# Altium integrated library Analog Devices Operational Amplifiers.IntLib: 2102 symbols (part 41 of 70)
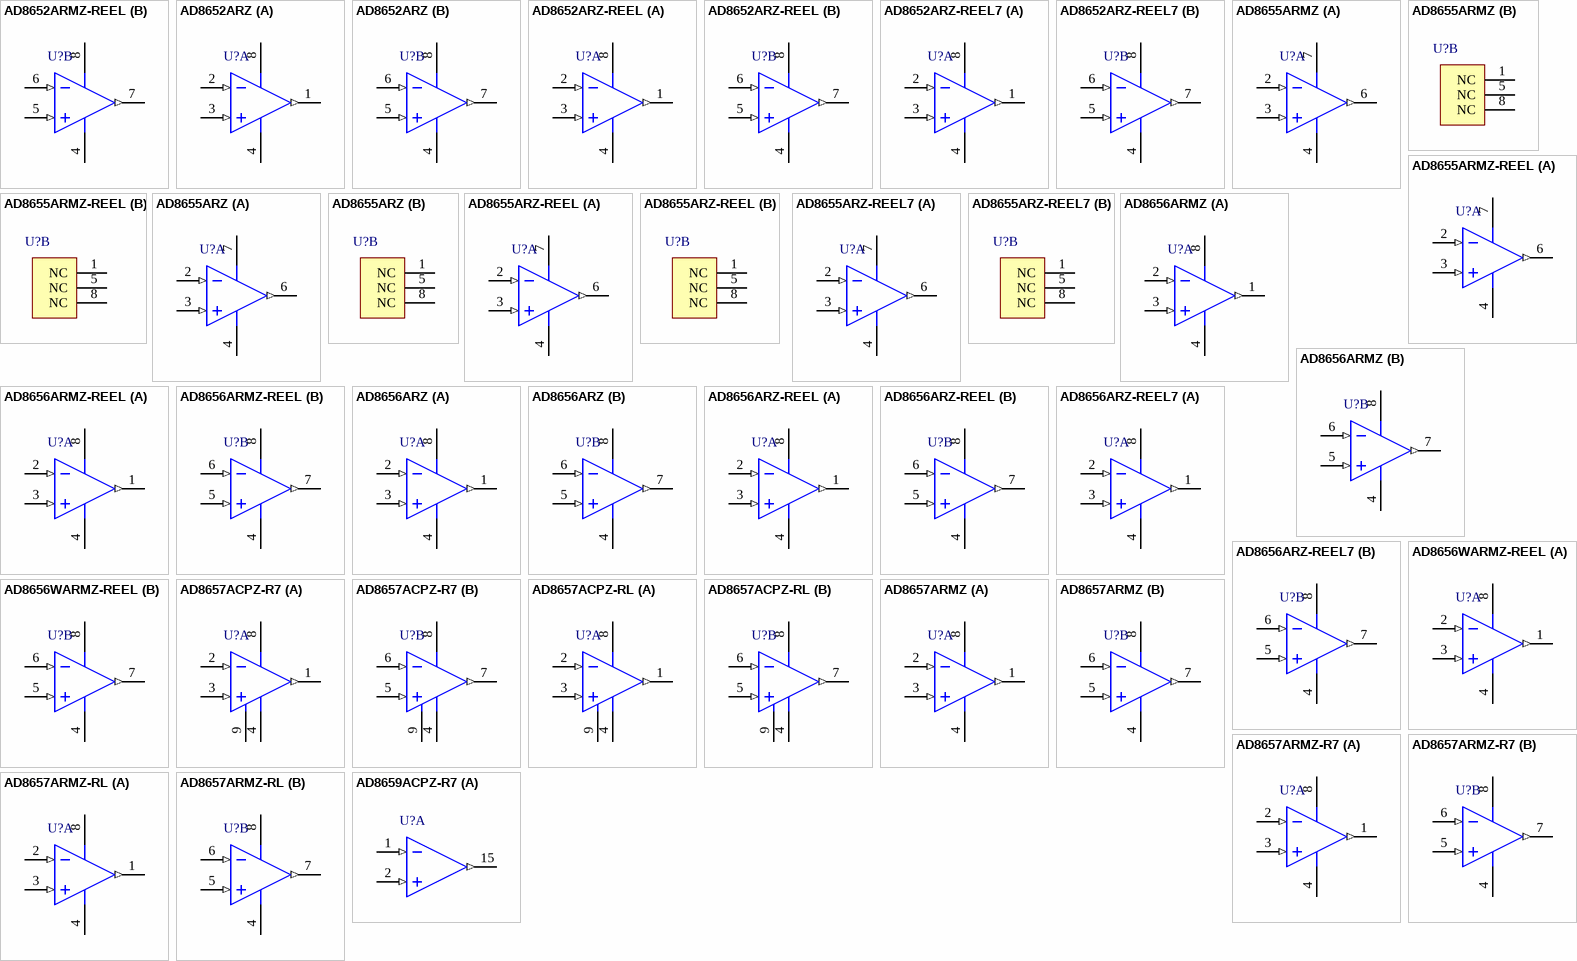
[diagram p154: symbols AD8652ARMZ-REEL to AD8659ACPZ-R7]

## AD8657ACPZ-R7
designator U?
Double Channel Single-Supply Operation Operational Amplifier, 200 KHz BW, 50 mV/us SR, Industrial, 8-pin SON (CP-8-11), Reel; Generic Part Number: AD8657; Manufacturer: Analog Devices; PartNumber: AD8657ACPZ-R7; Amplifiers Per Package: 2; Input Bias Current: 1pA; Input Offset Voltage: 350uV; Iq/Amp: 18uA; Small Signal Bandwidth: 200KHz; V Span Max: 18V; V Span Min: 2.7V; DatasheetVersion: Rev. B; PackageVersion: 01-24-2011-B; PackageReference: CP-8-11; PackageDescription: 8-Pin Lead Frame Chip Scale Package, Body 3 x 3 mm, Pitch 0.5 mm; Supplier 1: Digi-Key; Supplier Part Number 1: AD8657ACPZ-R7TR-ND; Supplier 2: Digi-Key; Supplier Part Number 2: AD8657ACPZ-R7CT-ND; Supplier 3: Digi-Key; Supplier Part Number 3: AD8657ACPZ-R7DKR-ND; Packing: Reel; Slew Rate: 50mV/us; Mounting Technology: Surface Mount; Code_JEDEC: MO-229-WEED; ComponentLink1Description: Manufacturer URL; ComponentLink1URL: http://www.analog.com/en/index.html; ComponentLink2Description: Datasheet; ComponentLink2URL: http://www.analog.com/static/imported-files/data_sheets/AD8657_8659.pdf; ComponentLink3Description: Package Specification; ComponentLink3URL: http://www.analog.com/static/imported-files/packages/PKG_PDF/LFCSP(CP)/CP_8_11.pdf; ComponentLink4Description: Reference Circuit; ComponentLink4URL: http://www.analog.com/en/all-operational-amplifiers-op-amps/operational-amplifiers-op-amps/ad8657/products/product.html#product-recommendations
footprint ADI-CP-8-11_N (SON, 8-Leads, Body 3x3mm, Pitch 0.5mm, Thermal Pad 2.34 x 1.60mm, IPC Medium Density)
footprint ADI-CP-8-11_L (SON, 8-Leads, Body 3x3mm, Pitch 0.5mm, Thermal Pad 2.34 x 1.60mm, IPC High Density)
footprint ADI-CP-8-11_M (SON, 8-Leads, Body 3x3mm, Pitch 0.5mm, Thermal Pad 2.34 x 1.60mm, IPC Low Density)
pins on every part: 4 -V (power) "Negative Supply Voltage.", 8 +V (power) "Positive Supply Voltage.", 9 EP "Exposed Pad (LFCSP Only). Connect the exposed pad to V? or leave it unconnected."
part A pins: 1 OUT A (out) "Output, Channel A.", 2 -IN A (in) "Inverting Input, Channel A.", 3 +IN A (in) "Noninverting Input, Channel A."
part B pins: 5 +IN B (in) "Noninverting Input, Channel B.", 6 -IN B (in) "Inverting Input, Channel B.", 7 OUT B (out) "Output, Channel B."

## AD8657ACPZ-RL
designator U?
Double Channel Single-Supply Operation Operational Amplifier, 200 KHz BW, 50 mV/us SR, Industrial, 8-pin SON (CP-8-11), Reel; Generic Part Number: AD8657; Manufacturer: Analog Devices; PartNumber: AD8657ACPZ-RL; Amplifiers Per Package: 2; Input Bias Current: 1pA; Input Offset Voltage: 350uV; Iq/Amp: 18uA; Small Signal Bandwidth: 200KHz; V Span Max: 18V; V Span Min: 2.7V; DatasheetVersion: Rev. B; PackageVersion: 01-24-2011-B; PackageReference: CP-8-11; PackageDescription: 8-Pin Lead Frame Chip Scale Package, Body 3 x 3 mm, Pitch 0.5 mm; Supplier 1: Digi-Key; Supplier Part Number 1: AD8657ACPZ-RL-ND; Packing: Reel; Slew Rate: 50mV/us; Mounting Technology: Surface Mount; Code_JEDEC: MO-229-WEED; ComponentLink1Description: Manufacturer URL; ComponentLink1URL: http://www.analog.com/en/index.html; ComponentLink2Description: Datasheet; ComponentLink2URL: http://www.analog.com/static/imported-files/data_sheets/AD8657_8659.pdf; ComponentLink3Description: Package Specification; ComponentLink3URL: http://www.analog.com/static/imported-files/packages/PKG_PDF/LFCSP(CP)/CP_8_11.pdf; ComponentLink4Description: Reference Circuit; ComponentLink4URL: http://www.analog.com/en/all-operational-amplifiers-op-amps/operational-amplifiers-op-amps/ad8657/products/product.html#product-recommendations
footprint ADI-CP-8-11_N (SON, 8-Leads, Body 3x3mm, Pitch 0.5mm, Thermal Pad 2.34 x 1.60mm, IPC Medium Density)
footprint ADI-CP-8-11_L (SON, 8-Leads, Body 3x3mm, Pitch 0.5mm, Thermal Pad 2.34 x 1.60mm, IPC High Density)
footprint ADI-CP-8-11_M (SON, 8-Leads, Body 3x3mm, Pitch 0.5mm, Thermal Pad 2.34 x 1.60mm, IPC Low Density)
pins on every part: 4 -V (power) "Negative Supply Voltage.", 8 +V (power) "Positive Supply Voltage.", 9 EP "Exposed Pad (LFCSP Only). Connect the exposed pad to V? or leave it unconnected."
part A pins: 1 OUT A (out) "Output, Channel A.", 2 -IN A (in) "Inverting Input, Channel A.", 3 +IN A (in) "Noninverting Input, Channel A."
part B pins: 5 +IN B (in) "Noninverting Input, Channel B.", 6 -IN B (in) "Inverting Input, Channel B.", 7 OUT B (out) "Output, Channel B."

## AD8657ARMZ
designator U?
Double Channel Single-Supply Operation Operational Amplifier, 200 KHz BW, 50 mV/us SR, Industrial, 8-pin SOP (RM-8), Tube; Generic Part Number: AD8657; Manufacturer: Analog Devices; PartNumber: AD8657ARMZ; Amplifiers Per Package: 2; Input Bias Current: 1pA; Input Offset Voltage: 350uV; Iq/Amp: 18uA; Small Signal Bandwidth: 200KHz; V Span Max: 18V; V Span Min: 2.7V; DatasheetVersion: Rev. B; PackageReference: RM-8; PackageDescription: 8-Pin Mini Small Outline Package, Body 3 x 3 mm, Pitch 0.65 mm; Supplier 1: Digi-Key; Supplier Part Number 1: AD8657ARMZ-ND; Supplier 2: Farnell; Supplier Part Number 2: 1897110; Supplier 3: Newark; Supplier Part Number 3: 31T9330; Packing: Tube; Slew Rate: 50mV/us; Mounting Technology: Surface Mount; Code_JEDEC: MO-187-AA; ComponentLink1Description: Manufacturer URL; ComponentLink1URL: http://www.analog.com/en/index.html; ComponentLink2Description: Datasheet; ComponentLink2URL: http://www.analog.com/static/imported-files/data_sheets/AD8657_8659.pdf; ComponentLink3Description: Package Specification; ComponentLink3URL: http://www.analog.com/static/imported-files/packages/PKG_PDF/MSOP%28RM%29/RM_8.pdf; ComponentLink4Description: Reference Circuit; ComponentLink4URL: http://www.analog.com/en/all-operational-amplifiers-op-amps/operational-amplifiers-op-amps/ad8657/products/product.html#product-recommendations
footprint ADI-RM-8_N (SOP, 8-Leads, Body 3x3mm, Pitch 0.65mm, IPC Medium Density)
footprint ADI-RM-8_L (SOP, 8-Leads, Body 3x3mm, Pitch 0.65mm, IPC High Density)
footprint ADI-RM-8_M (SOP, 8-Leads, Body 3x3mm, Pitch 0.65mm, IPC Low Density)
pins on every part: 4 -V (power), 8 +V (power)
part A pins: 1 OUT A (out), 2 -IN A (in), 3 +IN A (in)
part B pins: 5 +IN B (in), 6 -IN B (in), 7 OUT B (out)

## AD8657ARMZ-R7
designator U?
Double Channel Single-Supply Operation Operational Amplifier, 200 KHz BW, 50 mV/us SR, Industrial, 8-pin SOP (RM-8), Reel; Generic Part Number: AD8657; Manufacturer: Analog Devices; PartNumber: AD8657ARMZ-R7; Amplifiers Per Package: 2; Input Bias Current: 1pA; Input Offset Voltage: 350uV; Iq/Amp: 18uA; Small Signal Bandwidth: 200KHz; V Span Max: 18V; V Span Min: 2.7V; DatasheetVersion: Rev. B; PackageReference: RM-8; PackageDescription: 8-Pin Mini Small Outline Package, Body 3 x 3 mm, Pitch 0.65 mm; Supplier 1: Digi-Key; Supplier Part Number 1: AD8657ARMZ-R7TR-ND; Supplier 2: Digi-Key; Supplier Part Number 2: AD8657ARMZ-R7CT-ND; Supplier 3: Digi-Key; Supplier Part Number 3: AD8657ARMZ-R7DKR-ND; Packing: Reel; Slew Rate: 50mV/us; Mounting Technology: Surface Mount; Code_JEDEC: MO-187-AA; ComponentLink1Description: Manufacturer URL; ComponentLink1URL: http://www.analog.com/en/index.html; ComponentLink2Description: Datasheet; ComponentLink2URL: http://www.analog.com/static/imported-files/data_sheets/AD8657_8659.pdf; ComponentLink3Description: Package Specification; ComponentLink3URL: http://www.analog.com/static/imported-files/packages/PKG_PDF/MSOP%28RM%29/RM_8.pdf; ComponentLink4Description: Reference Circuit; ComponentLink4URL: http://www.analog.com/en/all-operational-amplifiers-op-amps/operational-amplifiers-op-amps/ad8657/products/product.html#product-recommendations
footprint ADI-RM-8_N (SOP, 8-Leads, Body 3x3mm, Pitch 0.65mm, IPC Medium Density)
footprint ADI-RM-8_L (SOP, 8-Leads, Body 3x3mm, Pitch 0.65mm, IPC High Density)
footprint ADI-RM-8_M (SOP, 8-Leads, Body 3x3mm, Pitch 0.65mm, IPC Low Density)
pins on every part: 4 -V (power), 8 +V (power)
part A pins: 1 OUT A (out), 2 -IN A (in), 3 +IN A (in)
part B pins: 5 +IN B (in), 6 -IN B (in), 7 OUT B (out)

## AD8657ARMZ-RL
designator U?
Double Channel Single-Supply Operation Operational Amplifier, 200 KHz BW, 50 mV/us SR, Industrial, 8-pin SOP (RM-8), Reel; Generic Part Number: AD8657; Manufacturer: Analog Devices; PartNumber: AD8657ARMZ-RL; Amplifiers Per Package: 2; Input Bias Current: 1pA; Input Offset Voltage: 350uV; Iq/Amp: 18uA; Small Signal Bandwidth: 200KHz; V Span Max: 18V; V Span Min: 2.7V; DatasheetVersion: Rev. B; PackageReference: RM-8; PackageDescription: 8-Pin Mini Small Outline Package, Body 3 x 3 mm, Pitch 0.65 mm; Supplier 1: Digi-Key; Supplier Part Number 1: AD8657ARMZ-RL-ND; Packing: Reel; Slew Rate: 50mV/us; Mounting Technology: Surface Mount; Code_JEDEC: MO-187-AA; ComponentLink1Description: Manufacturer URL; ComponentLink1URL: http://www.analog.com/en/index.html; ComponentLink2Description: Datasheet; ComponentLink2URL: http://www.analog.com/static/imported-files/data_sheets/AD8657_8659.pdf; ComponentLink3Description: Package Specification; ComponentLink3URL: http://www.analog.com/static/imported-files/packages/PKG_PDF/MSOP%28RM%29/RM_8.pdf; ComponentLink4Description: Reference Circuit; ComponentLink4URL: http://www.analog.com/en/all-operational-amplifiers-op-amps/operational-amplifiers-op-amps/ad8657/products/product.html#product-recommendations
footprint ADI-RM-8_N (SOP, 8-Leads, Body 3x3mm, Pitch 0.65mm, IPC Medium Density)
footprint ADI-RM-8_L (SOP, 8-Leads, Body 3x3mm, Pitch 0.65mm, IPC High Density)
footprint ADI-RM-8_M (SOP, 8-Leads, Body 3x3mm, Pitch 0.65mm, IPC Low Density)
pins on every part: 4 -V (power), 8 +V (power)
part A pins: 1 OUT A (out), 2 -IN A (in), 3 +IN A (in)
part B pins: 5 +IN B (in), 6 -IN B (in), 7 OUT B (out)

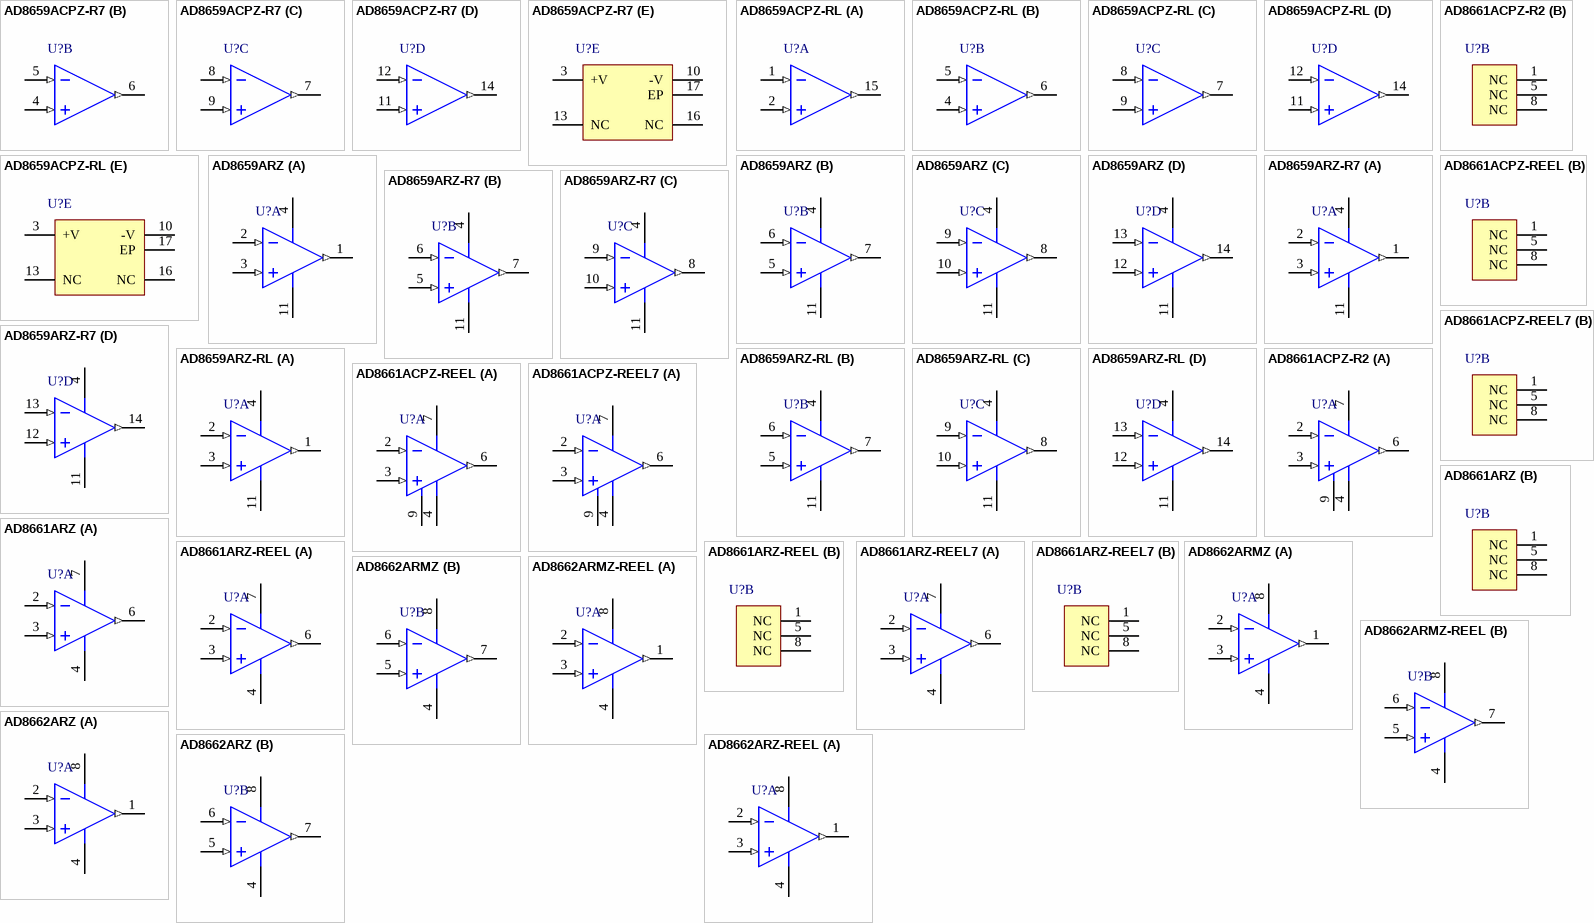
[diagram p63: symbols AD8659ACPZ-R7 to AD8662ARZ-REEL]

## AD8659ACPZ-R7
designator U?
Quad Channel Single-Supply Operation Operational Amplifier, 230 KHz BW, 75 mV/us SR, Industrial, 16-pin QFN (CP-16-20), Reel; Generic Part Number: AD8659; Manufacturer: Analog Devices; PartNumber: AD8659ACPZ-R7; Amplifiers Per Package: 4; Input Bias Current: 2pA; Input Offset Voltage: 350uV; Iq/Amp: 18uA; Small Signal Bandwidth: 230KHz; V Span Max: 18V; V Span Min: 2.7V; DatasheetVersion: Rev. B; PackageVersion: 101408-A; PackageReference: CP-16-20; PackageDescription: 16-Pin Lead Frame Chip Scale Package, Body 4 x 4 mm, Pitch 0.65 mm; Supplier 1: Digi-Key; Supplier Part Number 1: AD8659ACPZ-R7TR-ND; Supplier 2: Digi-Key; Supplier Part Number 2: AD8659ACPZ-R7CT-ND; Supplier 3: Digi-Key; Supplier Part Number 3: AD8659ACPZ-R7DKR-ND; Packing: Reel; Slew Rate: 75mV/us; Mounting Technology: Surface Mount; Code_JEDEC: MO-220-WGGD; ComponentLink1Description: Manufacturer URL; ComponentLink1URL: http://www.analog.com/en/index.html; ComponentLink2Description: Datasheet; ComponentLink2URL: http://www.analog.com/static/imported-files/data_sheets/AD8657_8659.pdf; ComponentLink3Description: Package Specification; ComponentLink3URL: http://www.analog.com/static/imported-files/packages/PKG_PDF/LFCSP(CP)/CP_16_20.pdf
footprint ADI-CP-16-20_N (QFN, 16-Leads, Body 4x4mm, Pitch 0.65mm, Thermal Pad 2.35x2.35mm, IPC Medium Density)
footprint ADI-CP-16-20_L (QFN, 16-Leads, Body 4x4mm, Pitch 0.65mm, Thermal Pad 2.35x2.35mm, IPC High Density)
footprint ADI-CP-16-20_M (QFN, 16-Leads, Body 4x4mm, Pitch 0.65mm, Thermal Pad 2.35x2.35mm, IPC Low Density)
part A pins: 1 -IN A (in) "Negative Input Channel A.", 2 +IN A (in) "Positive Input Channel A.", 15 OUT A (out) "Output Channel C."
part B pins: 4 +IN B (in) "Positive Input Channel B.", 5 -IN B (in) "Negative Input Channel B.", 6 OUT B (out) "Output Channel B."
part C pins: 7 OUT C (out) "Output Channel C.", 8 -IN C (in) "Negative Input Channel C.", 9 +IN C (in) "Positive Input Channel C."
part D pins: 11 +IN D (in) "Positive Input Channel D.", 12 -IN D (in) "Negative Input Channel D.", 14 OUT D (out) "Output Channel D."
part E pins: 3 +V (power) "Positive Supply Voltage.", 10 -V (power) "Negative Supply Voltage.", 13 NC "No Internal Connection", 16 NC "No Internal Connection", 17 EP "Exposed Pad. For the AD8659 (16-lead LFCSP only), connect the exposed pad to V- or leave it unconnected"

## AD8659ACPZ-RL
designator U?
Quad Channel Single-Supply Operation Operational Amplifier, 230 KHz BW, 75 mV/us SR, Industrial, 16-pin QFN (CP-16-20), Reel; Generic Part Number: AD8659; Manufacturer: Analog Devices; PartNumber: AD8659ACPZ-RL; Amplifiers Per Package: 4; Input Bias Current: 2pA; Input Offset Voltage: 350uV; Iq/Amp: 18uA; Small Signal Bandwidth: 230KHz; V Span Max: 18V; V Span Min: 2.7V; DatasheetVersion: Rev. B; PackageVersion: 101408-A; PackageReference: CP-16-20; PackageDescription: 16-Pin Lead Frame Chip Scale Package, Body 4 x 4 mm, Pitch 0.65 mm; Supplier 1: Digi-Key; Supplier Part Number 1: AD8659ACPZ-RL-ND; Packing: Reel; Slew Rate: 75mV/us; Mounting Technology: Surface Mount; Code_JEDEC: MO-220-WGGD; ComponentLink1Description: Manufacturer URL; ComponentLink1URL: http://www.analog.com/en/index.html; ComponentLink2Description: Datasheet; ComponentLink2URL: http://www.analog.com/static/imported-files/data_sheets/AD8657_8659.pdf; ComponentLink3Description: Package Specification; ComponentLink3URL: http://www.analog.com/static/imported-files/packages/PKG_PDF/LFCSP(CP)/CP_16_20.pdf
footprint ADI-CP-16-20_N (QFN, 16-Leads, Body 4x4mm, Pitch 0.65mm, Thermal Pad 2.35x2.35mm, IPC Medium Density)
footprint ADI-CP-16-20_L (QFN, 16-Leads, Body 4x4mm, Pitch 0.65mm, Thermal Pad 2.35x2.35mm, IPC High Density)
footprint ADI-CP-16-20_M (QFN, 16-Leads, Body 4x4mm, Pitch 0.65mm, Thermal Pad 2.35x2.35mm, IPC Low Density)
part A pins: 1 -IN A (in) "Negative Input Channel A.", 2 +IN A (in) "Positive Input Channel A.", 15 OUT A (out) "Output Channel C."
part B pins: 4 +IN B (in) "Positive Input Channel B.", 5 -IN B (in) "Negative Input Channel B.", 6 OUT B (out) "Output Channel B."
part C pins: 7 OUT C (out) "Output Channel C.", 8 -IN C (in) "Negative Input Channel C.", 9 +IN C (in) "Positive Input Channel C."
part D pins: 11 +IN D (in) "Positive Input Channel D.", 12 -IN D (in) "Negative Input Channel D.", 14 OUT D (out) "Output Channel D."
part E pins: 3 +V (power) "Positive Supply Voltage.", 10 -V (power) "Negative Supply Voltage.", 13 NC "No Internal Connection", 16 NC "No Internal Connection", 17 EP "Exposed Pad. For the AD8659 (16-lead LFCSP only), connect the exposed pad to V- or leave it unconnected"

## AD8659ARZ
designator U?
Quad Channel Single-Supply Operation Operational Amplifier, 230 KHz BW, 75 mV/us SR, Industrial, 14-pin SOIC (R-14), Tube; Generic Part Number: AD8659; Manufacturer: Analog Devices; PartNumber: AD8659ARZ; Amplifiers Per Package: 4; Input Bias Current: 2pA; Input Offset Voltage: 350uV; Iq/Amp: 18uA; Small Signal Bandwidth: 230KHz; V Span Max: 18V; V Span Min: 2.7V; DatasheetVersion: Rev. B; PackageVersion: 060606-A; PackageReference: R-14; PackageDescription: 14-Pin Standard Small Outline Package, Body 8.65 x 3.9 mm, Pitch 1.27 mm; Supplier 1: Digi-Key; Supplier Part Number 1: AD8659ARZ-ND; Supplier 2: Farnell; Supplier Part Number 2: 2191717; Supplier 3: Newark; Supplier Part Number 3: 45T0244; Supplier 4: Newark; Supplier Part Number 4: 43W5567; Packing: Tube; Slew Rate: 75mV/us; Mounting Technology: Surface Mount; Code_JEDEC: MS-012-AB; ComponentLink1Description: Manufacturer URL; ComponentLink1URL: http://www.analog.com/en/index.html; ComponentLink2Description: Datasheet; ComponentLink2URL: http://www.analog.com/static/imported-files/data_sheets/AD8657_8659.pdf; ComponentLink3Description: Package Specification; ComponentLink3URL: http://www.analog.com/static/imported-files/packages/PKG_PDF/SOIC_Narrow%20(R)/R_14.pdf
footprint ADI-R-14_N (SOIC, 14-Leads, Body 8.65x3.9mm, Pitch 1.27mm, IPC Medium Density)
footprint ADI-R-14_L (SOIC, 14-Leads, Body 8.65x3.9mm, Pitch 1.27mm, IPC High Density)
footprint ADI-R-14_M (SOIC, 14-Leads, Body 8.65x3.9mm, Pitch 1.27mm, IPC Low Density)
pins on every part: 4 +V (power), 11 -V (power)
part A pins: 1 OUT A (out), 2 -IN A (in), 3 +IN A (in)
part B pins: 5 +IN B (in), 6 -IN B (in), 7 OUT B (out)
part C pins: 8 OUT C (out), 9 -IN C (in), 10 +IN C (in)
part D pins: 12 +IN D (in), 13 -IN D (in), 14 OUT D (out)

## AD8659ARZ-R7
designator U?
Quad Channel Single-Supply Operation Operational Amplifier, 230 KHz BW, 80 mV/us SR, Industrial, 14-pin SOIC (R-14), Reel; Generic Part Number: AD8659; Manufacturer: Analog Devices; PartNumber: AD8659ARZ-R7; Amplifiers Per Package: 4; Input Bias Current: 2pA; Input Offset Voltage: 350uV; Iq/Amp: 18uA; Slew Rate: 75mV/us; Small Signal Bandwidth: 230KHz; V Span Max: 18V; V Span Min: 2.7V; DatasheetVersion: Rev. B; PackageVersion: 060606-A; PackageReference: R-14; PackageDescription: 14-Pin Standard Small Outline Package, Body 8.65 x 3.9 mm, Pitch 1.27 mm; Supplier 1: Digi-Key; Supplier Part Number 1: AD8659ARZ-R7TR-ND; Supplier 2: Digi-Key; Supplier Part Number 2: AD8659ARZ-R7CT-ND; Supplier 3: Digi-Key; Supplier Part Number 3: AD8659ARZ-R7DKR-ND; Packing: Reel; Mounting Technology: Surface Mount; Code_JEDEC: MS-012-AB; ComponentLink1Description: Manufacturer URL; ComponentLink1URL: http://www.analog.com/en/index.html; ComponentLink2Description: Datasheet; ComponentLink2URL: http://www.analog.com/static/imported-files/data_sheets/AD8657_8659.pdf; ComponentLink3Description: Package Specification; ComponentLink3URL: http://www.analog.com/static/imported-files/packages/PKG_PDF/SOIC_Narrow%20(R)/R_14.pdf
footprint ADI-R-14_N (SOIC, 14-Leads, Body 8.65x3.9mm, Pitch 1.27mm, IPC Medium Density)
footprint ADI-R-14_L (SOIC, 14-Leads, Body 8.65x3.9mm, Pitch 1.27mm, IPC High Density)
footprint ADI-R-14_M (SOIC, 14-Leads, Body 8.65x3.9mm, Pitch 1.27mm, IPC Low Density)
pins on every part: 4 +V (power), 11 -V (power)
part A pins: 1 OUT A (out), 2 -IN A (in), 3 +IN A (in)
part B pins: 5 +IN B (in), 6 -IN B (in), 7 OUT B (out)
part C pins: 8 OUT C (out), 9 -IN C (in), 10 +IN C (in)
part D pins: 12 +IN D (in), 13 -IN D (in), 14 OUT D (out)

## AD8659ARZ-RL
designator U?
Quad Channel Single-Supply Operation Operational Amplifier, 230 KHz BW, 75 mV/us SR, Industrial, 14-pin SOIC (R-14), Reel; Generic Part Number: AD8659; Manufacturer: Analog Devices; PartNumber: AD8659ARZ-RL; Amplifiers Per Package: 4; Input Bias Current: 2pA; Input Offset Voltage: 350uV; Iq/Amp: 18uA; Small Signal Bandwidth: 230KHz; V Span Max: 18V; V Span Min: 2.7V; DatasheetVersion: Rev. B; PackageVersion: 060606-A; PackageReference: R-14; PackageDescription: 14-Pin Standard Small Outline Package, Body 8.65 x 3.9 mm, Pitch 1.27 mm; Supplier 1: Digi-Key; Supplier Part Number 1: AD8659ARZ-RL-ND; Packing: Reel; Slew Rate: 75mV/us; Mounting Technology: Surface Mount; Code_JEDEC: MS-012-AB; ComponentLink1Description: Manufacturer URL; ComponentLink1URL: http://www.analog.com/en/index.html; ComponentLink2Description: Datasheet; ComponentLink2URL: http://www.analog.com/static/imported-files/data_sheets/AD8657_8659.pdf; ComponentLink3Description: Package Specification; ComponentLink3URL: http://www.analog.com/static/imported-files/packages/PKG_PDF/SOIC_Narrow%20(R)/R_14.pdf
footprint ADI-R-14_N (SOIC, 14-Leads, Body 8.65x3.9mm, Pitch 1.27mm, IPC Medium Density)
footprint ADI-R-14_L (SOIC, 14-Leads, Body 8.65x3.9mm, Pitch 1.27mm, IPC High Density)
footprint ADI-R-14_M (SOIC, 14-Leads, Body 8.65x3.9mm, Pitch 1.27mm, IPC Low Density)
pins on every part: 4 +V (power), 11 -V (power)
part A pins: 1 OUT A (out), 2 -IN A (in), 3 +IN A (in)
part B pins: 5 +IN B (in), 6 -IN B (in), 7 OUT B (out)
part C pins: 8 OUT C (out), 9 -IN C (in), 10 +IN C (in)
part D pins: 12 +IN D (in), 13 -IN D (in), 14 OUT D (out)

## AD8661ACPZ-R2
designator U?
Single Channel Wide Bandwidth Operational Amplifier, 4 MHz BW, 3.5 V/us SR, Industrial, 8-pin QFN (CP-8-2), Reel; Generic Part Number: AD8661; Manufacturer: Analog Devices; PartNumber: AD8661ACPZ-R2; Amplifiers Per Package: 1; Input Bias Current: 300fA; Input Offset Voltage: 30uV; Iq/Amp: 1.4mA; Small Signal Bandwidth: 4MHz; V Span Max: 16V; V Span Min: 5V; DatasheetVersion: Rev. D; PackageVersion: 061507-B; PackageReference: CP-8-2; PackageDescription: 8-Pin Lead Frame Chip Scale Package, Body 3 x 3 mm, Pitch 0.5 mm; Supplier 1: Digi-Key; Supplier Part Number 1: AD8661ACPZ-R2TR-ND; Supplier 2: Digi-Key; Supplier Part Number 2: AD8661ACPZ-R2CT-ND; Supplier 3: Digi-Key; Supplier Part Number 3: AD8661ACPZ-R2DKR-ND; Slew Rate: 3.5V/us; Mounting Technology: Surface Mount; ComponentLink1Description: Manufacturer URL; ComponentLink1URL: http://www.analog.com/en/index.html; ComponentLink2Description: Datasheet; ComponentLink2URL: http://www.analog.com/static/imported-files/data_sheets/AD8661_8662.pdf; ComponentLink3Description: Package Specification; ComponentLink3URL: http://www.analog.com/static/imported-files/packages/56953322593982CP_8_2.pdf
footprint ADI-CP-8-2_N (QFN, 8-Leads, Body 3x3mm, Pitch 0.5mm, Thermal Pad 1.45X1.74mm, IPC Medium Density)
footprint ADI-CP-8-2_L (QFN, 8-Leads, Body 3x3mm, Pitch 0.5mm, Thermal Pad 1.45X1.74mm, IPC High Density)
footprint ADI-CP-8-2_M (QFN, 8-Leads, Body 3x3mm, Pitch 0.5mm, Thermal Pad 1.45X1.74mm, IPC Low Density)
part A pins: 2 -IN (in), 3 +IN (in), 4 -V (power), 6 OUT (out), 7 +V (power), 9 EP
part B pins: 1 NC, 5 NC, 8 NC

## AD8661ACPZ-REEL
designator U?
Single Channel Wide Bandwidth Operational Amplifier, 4 MHz BW, 3.5 V/us SR, Industrial, 8-pin QFN (CP-8-2), Reel; Generic Part Number: AD8661; Manufacturer: Analog Devices; PartNumber: AD8661ACPZ-REEL; Amplifiers Per Package: 1; Input Bias Current: 300fA; Input Offset Voltage: 30uV; Iq/Amp: 1.4mA; Small Signal Bandwidth: 4MHz; V Span Max: 16V; V Span Min: 5V; DatasheetVersion: Rev. D; PackageVersion: 061507-B; PackageReference: CP-8-2; PackageDescription: 8-Pin Lead Frame Chip Scale Package, Body 3 x 3 mm, Pitch 0.5 mm; Supplier 1: Digi-Key; Supplier Part Number 1: AD8661ACPZ-REEL-ND; Slew Rate: 3.5V/us; Mounting Technology: Surface Mount; ComponentLink1Description: Manufacturer URL; ComponentLink1URL: http://www.analog.com/en/index.html; ComponentLink2Description: Datasheet; ComponentLink2URL: http://www.analog.com/static/imported-files/data_sheets/AD8661_8662.pdf; ComponentLink3Description: Package Specification; ComponentLink3URL: http://www.analog.com/static/imported-files/packages/56953322593982CP_8_2.pdf
footprint ADI-CP-8-2_N (QFN, 8-Leads, Body 3x3mm, Pitch 0.5mm, Thermal Pad 1.45X1.74mm, IPC Medium Density)
footprint ADI-CP-8-2_L (QFN, 8-Leads, Body 3x3mm, Pitch 0.5mm, Thermal Pad 1.45X1.74mm, IPC High Density)
footprint ADI-CP-8-2_M (QFN, 8-Leads, Body 3x3mm, Pitch 0.5mm, Thermal Pad 1.45X1.74mm, IPC Low Density)
part A pins: 2 -IN (in), 3 +IN (in), 4 -V (power), 6 OUT (out), 7 +V (power), 9 EP
part B pins: 1 NC, 5 NC, 8 NC

## AD8661ACPZ-REEL7
designator U?
Single Channel Wide Bandwidth Operational Amplifier, 4 MHz BW, 3.5 V/us SR, Industrial, 8-pin QFN (CP-8-2), Reel; Generic Part Number: AD8661; Manufacturer: Analog Devices; PartNumber: AD8661ACPZ-REEL7; Amplifiers Per Package: 1; Input Bias Current: 300fA; Input Offset Voltage: 30uV; Iq/Amp: 1.4mA; Small Signal Bandwidth: 4MHz; V Span Max: 16V; V Span Min: 5V; DatasheetVersion: Rev. D; PackageVersion: 061507-B; PackageReference: CP-8-2; PackageDescription: 8-Pin Lead Frame Chip Scale Package, Body 3 x 3 mm, Pitch 0.5 mm; Supplier 1: Digi-Key; Supplier Part Number 1: AD8661ACPZ-REEL7TR-ND; Supplier 2: Digi-Key; Supplier Part Number 2: AD8661ACPZ-REEL7CT-ND; Supplier 3: Digi-Key; Supplier Part Number 3: AD8661ACPZ-REEL7DKR-ND; Slew Rate: 3.5V/us; Mounting Technology: Surface Mount; ComponentLink1Description: Manufacturer URL; ComponentLink1URL: http://www.analog.com/en/index.html; ComponentLink2Description: Datasheet; ComponentLink2URL: http://www.analog.com/static/imported-files/data_sheets/AD8661_8662.pdf; ComponentLink3Description: Package Specification; ComponentLink3URL: http://www.analog.com/static/imported-files/packages/56953322593982CP_8_2.pdf
footprint ADI-CP-8-2_N (QFN, 8-Leads, Body 3x3mm, Pitch 0.5mm, Thermal Pad 1.45X1.74mm, IPC Medium Density)
footprint ADI-CP-8-2_L (QFN, 8-Leads, Body 3x3mm, Pitch 0.5mm, Thermal Pad 1.45X1.74mm, IPC High Density)
footprint ADI-CP-8-2_M (QFN, 8-Leads, Body 3x3mm, Pitch 0.5mm, Thermal Pad 1.45X1.74mm, IPC Low Density)
part A pins: 2 -IN (in), 3 +IN (in), 4 -V (power), 6 OUT (out), 7 +V (power), 9 EP
part B pins: 1 NC, 5 NC, 8 NC

## AD8661ARZ
designator U?
Single Channel Wide Bandwidth Operational Amplifier, 4 MHz BW, 3.5 V/us SR, Industrial, 8-pin SOIC (R-8), Tube; Generic Part Number: AD8661; Manufacturer: Analog Devices; PartNumber: AD8661ARZ; Amplifiers Per Package: 1; Input Bias Current: 300fA; Input Offset Voltage: 30uV; Iq/Amp: 1.4mA; Small Signal Bandwidth: 4MHz; V Span Max: 16V; V Span Min: 5V; DatasheetVersion: Rev. D; PackageVersion: 060506-A; PackageReference: R-8; PackageDescription: 8-Pin Standard Small Outline Package, Body 3.9 x 4.9 mm, Pitch 1.27 mm; Supplier 1: Digi-Key; Supplier Part Number 1: AD8661ARZ-ND; Supplier 2: Farnell; Supplier Part Number 2: 1117886; Supplier 3: Newark; Supplier Part Number 3: 31M4596; Supplier 4: Newark; Supplier Part Number 4: 12M9145; Slew Rate: 3.5V/us; Mounting Technology: Surface Mount; Code_JEDEC: MS-012-AA; ComponentLink1Description: Manufacturer URL; ComponentLink1URL: http://www.analog.com/en/index.html; ComponentLink2Description: Datasheet; ComponentLink2URL: http://www.analog.com/static/imported-files/data_sheets/AD8661_8662.pdf; ComponentLink3Description: Package Specification; ComponentLink3URL: http://www.analog.com/static/imported-files/packages/PKG_PDF/SOIC_Narrow%20(R)/R_8.pdf
footprint ADI-R-8_N (SOIC, 8-Leads, Body 4.9x3.9mm, Pitch 1.27mm, IPC Medium Density)
footprint ADI-R-8_L (SOIC, 8-Leads, Body 4.9x3.9mm, Pitch 1.27mm, IPC High Density)
footprint ADI-R-8_M (SOIC, 8-Leads, Body 4.9x3.9mm, Pitch 1.27mm, IPC Low Density)
part A pins: 2 -IN (in), 3 +IN (in), 4 -V (power), 6 OUT (out), 7 +V (power)
part B pins: 1 NC, 5 NC, 8 NC

## AD8661ARZ-REEL
designator U?
Single Channel Wide Bandwidth Operational Amplifier, 4 MHz BW, 3.5 V/us SR, Industrial, 8-pin SOIC (R-8), Reel; Generic Part Number: AD8661; Manufacturer: Analog Devices; PartNumber: AD8661ARZ-REEL; Amplifiers Per Package: 1; Input Bias Current: 300fA; Input Offset Voltage: 30uV; Iq/Amp: 1.4mA; Small Signal Bandwidth: 4MHz; V Span Max: 16V; V Span Min: 5V; DatasheetVersion: Rev. D; PackageVersion: 060506-A; PackageReference: R-8; PackageDescription: 8-Pin Standard Small Outline Package, Body 3.9 x 4.9 mm, Pitch 1.27 mm; Supplier 1: Digi-Key; Supplier Part Number 1: AD8661ARZ-REEL-ND; Slew Rate: 3.5V/us; Mounting Technology: Surface Mount; Code_JEDEC: MS-012-AA; ComponentLink1Description: Manufacturer URL; ComponentLink1URL: http://www.analog.com/en/index.html; ComponentLink2Description: Datasheet; ComponentLink2URL: http://www.analog.com/static/imported-files/data_sheets/AD8661_8662.pdf; ComponentLink3Description: Package Specification; ComponentLink3URL: http://www.analog.com/static/imported-files/packages/PKG_PDF/SOIC_Narrow%20(R)/R_8.pdf
footprint ADI-R-8_N (SOIC, 8-Leads, Body 4.9x3.9mm, Pitch 1.27mm, IPC Medium Density)
footprint ADI-R-8_L (SOIC, 8-Leads, Body 4.9x3.9mm, Pitch 1.27mm, IPC High Density)
footprint ADI-R-8_M (SOIC, 8-Leads, Body 4.9x3.9mm, Pitch 1.27mm, IPC Low Density)
part A pins: 2 -IN (in), 3 +IN (in), 4 -V (power), 6 OUT (out), 7 +V (power)
part B pins: 1 NC, 5 NC, 8 NC

## AD8661ARZ-REEL7
designator U?
Single Channel Wide Bandwidth Operational Amplifier, 4 MHz BW, 3.5 V/us SR, Industrial, 8-pin SOIC (R-8), Reel; Generic Part Number: AD8661; Manufacturer: Analog Devices; PartNumber: AD8661ARZ-REEL7; Amplifiers Per Package: 1; Input Bias Current: 300fA; Input Offset Voltage: 30uV; Iq/Amp: 1.4mA; Small Signal Bandwidth: 4MHz; V Span Max: 16V; V Span Min: 5V; DatasheetVersion: Rev. D; PackageVersion: 060506-A; PackageReference: R-8; PackageDescription: 8-Pin Standard Small Outline Package, Body 3.9 x 4.9 mm, Pitch 1.27 mm; Supplier 1: Digi-Key; Supplier Part Number 1: AD8661ARZ-REEL7TR-ND; Supplier 2: Digi-Key; Supplier Part Number 2: AD8661ARZ-REEL7CT-ND; Supplier 3: Digi-Key; Supplier Part Number 3: AD8661ARZ-REEL7DKR-ND; Supplier 4: Newark; Supplier Part Number 4: 12M9147; Slew Rate: 3.5V/us; Mounting Technology: Surface Mount; Code_JEDEC: MS-012-AA; ComponentLink1Description: Manufacturer URL; ComponentLink1URL: http://www.analog.com/en/index.html; ComponentLink2Description: Datasheet; ComponentLink2URL: http://www.analog.com/static/imported-files/data_sheets/AD8661_8662.pdf; ComponentLink3Description: Package Specification; ComponentLink3URL: http://www.analog.com/static/imported-files/packages/PKG_PDF/SOIC_Narrow%20(R)/R_8.pdf
footprint ADI-R-8_N (SOIC, 8-Leads, Body 4.9x3.9mm, Pitch 1.27mm, IPC Medium Density)
footprint ADI-R-8_L (SOIC, 8-Leads, Body 4.9x3.9mm, Pitch 1.27mm, IPC High Density)
footprint ADI-R-8_M (SOIC, 8-Leads, Body 4.9x3.9mm, Pitch 1.27mm, IPC Low Density)
part A pins: 2 -IN (in), 3 +IN (in), 4 -V (power), 6 OUT (out), 7 +V (power)
part B pins: 1 NC, 5 NC, 8 NC

## AD8662ARMZ
designator U?
Double Channel Wide Bandwidth Operational Amplifier, 4 MHz BW, 3.5 V/us SR, Industrial, 8-pin SOP (RM-8), Tube; Generic Part Number: AD8662; Manufacturer: Analog Devices; PartNumber: AD8662ARMZ; Amplifiers Per Package: 2; Input Bias Current: 300fA; Input Offset Voltage: 1mV; Iq/Amp: 1.55mA; Small Signal Bandwidth: 4MHz; V Span Max: 16V; V Span Min: 5V; DatasheetVersion: Rev. D; PackageReference: RM-8; PackageDescription: 8-Pin Mini Small Outline Package, Body 3 x 3 mm, Pitch 0.65 mm; Supplier 1: Digi-Key; Supplier Part Number 1: AD8662ARMZ-ND; Supplier 2: Newark; Supplier Part Number 2: 34P3253; Slew Rate: 3.5V/us; Mounting Technology: Surface Mount; Code_JEDEC: MO-187-AA; ComponentLink1Description: Manufacturer URL; ComponentLink1URL: http://www.analog.com/en/index.html; ComponentLink2Description: Datasheet; ComponentLink2URL: http://www.analog.com/static/imported-files/data_sheets/AD8661_8662.pdf; ComponentLink3Description: Package Specification; ComponentLink3URL: http://www.analog.com/static/imported-files/packages/PKG_PDF/MSOP%28RM%29/RM_8.pdf; ComponentLink4Description: Reference Circuit; ComponentLink4URL: http://www.analog.com/en/all-operational-amplifiers-op-amps/operational-amplifiers-op-amps/ad8662/products/product.html#product-recommendations
footprint ADI-RM-8_N (SOP, 8-Leads, Body 3x3mm, Pitch 0.65mm, IPC Medium Density)
footprint ADI-RM-8_L (SOP, 8-Leads, Body 3x3mm, Pitch 0.65mm, IPC High Density)
footprint ADI-RM-8_M (SOP, 8-Leads, Body 3x3mm, Pitch 0.65mm, IPC Low Density)
pins on every part: 4 -V (power), 8 +V (power)
part A pins: 1 OUT A (out), 2 -IN A (in), 3 +IN A (in)
part B pins: 5 +IN B (in), 6 -IN B (in), 7 OUT B (out)

## AD8662ARMZ-REEL
designator U?
Double Channel Wide Bandwidth Operational Amplifier, 4 MHz BW, 3.5 V/us SR, Industrial, 8-pin SOP (RM-8), Reel; Generic Part Number: AD8662; Manufacturer: Analog Devices; PartNumber: AD8662ARMZ-REEL; Amplifiers Per Package: 2; Input Bias Current: 300fA; Input Offset Voltage: 1mV; Iq/Amp: 1.55mA; Small Signal Bandwidth: 4MHz; V Span Max: 16V; V Span Min: 5V; DatasheetVersion: Rev. D; PackageReference: RM-8; PackageDescription: 8-Pin Mini Small Outline Package, Body 3 x 3 mm, Pitch 0.65 mm; Supplier 1: Digi-Key; Supplier Part Number 1: AD8662ARMZ-REELTR-ND; Supplier 2: Digi-Key; Supplier Part Number 2: AD8662ARMZ-REELCT-ND; Supplier 3: Digi-Key; Supplier Part Number 3: AD8662ARMZ-REELDKR-ND; Supplier 4: Newark; Supplier Part Number 4: 12M9148; Slew Rate: 3.5V/us; Mounting Technology: Surface Mount; Code_JEDEC: MO-187-AA; ComponentLink1Description: Manufacturer URL; ComponentLink1URL: http://www.analog.com/en/index.html; ComponentLink2Description: Datasheet; ComponentLink2URL: http://www.analog.com/static/imported-files/data_sheets/AD8661_8662.pdf; ComponentLink3Description: Package Specification; ComponentLink3URL: http://www.analog.com/static/imported-files/packages/PKG_PDF/MSOP%28RM%29/RM_8.pdf; ComponentLink4Description: Reference Circuit; ComponentLink4URL: http://www.analog.com/en/all-operational-amplifiers-op-amps/operational-amplifiers-op-amps/ad8662/products/product.html#product-recommendations
footprint ADI-RM-8_N (SOP, 8-Leads, Body 3x3mm, Pitch 0.65mm, IPC Medium Density)
footprint ADI-RM-8_L (SOP, 8-Leads, Body 3x3mm, Pitch 0.65mm, IPC High Density)
footprint ADI-RM-8_M (SOP, 8-Leads, Body 3x3mm, Pitch 0.65mm, IPC Low Density)
pins on every part: 4 -V (power), 8 +V (power)
part A pins: 1 OUT A (out), 2 -IN A (in), 3 +IN A (in)
part B pins: 5 +IN B (in), 6 -IN B (in), 7 OUT B (out)

## AD8662ARZ
designator U?
Double Channel Wide Bandwidth Operational Amplifier, 4 MHz BW, 3.5 V/us SR, Industrial, 8-pin SOIC (R-8), Tube; Generic Part Number: AD8662; Manufacturer: Analog Devices; PartNumber: AD8662ARZ; Amplifiers Per Package: 2; Input Bias Current: 300fA; Input Offset Voltage: 1mV; Iq/Amp: 1.55mA; Small Signal Bandwidth: 4MHz; V Span Max: 16V; V Span Min: 5V; DatasheetVersion: Rev. D; PackageVersion: 060506-A; PackageReference: R-8; PackageDescription: 8-Pin Standard Small Outline Package, Body 3.9 x 4.9 mm, Pitch 1.27 mm; Supplier 1: Digi-Key; Supplier Part Number 1: AD8662ARZ-ND; Supplier 2: Farnell; Supplier Part Number 2: 1274215; Supplier 3: Newark; Supplier Part Number 3: 19M0994; Slew Rate: 3.5V/us; Mounting Technology: Surface Mount; Code_JEDEC: MS-012-AA; ComponentLink1Description: Manufacturer URL; ComponentLink1URL: http://www.analog.com/en/index.html; ComponentLink2Description: Datasheet; ComponentLink2URL: http://www.analog.com/static/imported-files/data_sheets/AD8661_8662.pdf; ComponentLink3Description: Package Specification; ComponentLink3URL: http://www.analog.com/static/imported-files/packages/PKG_PDF/SOIC_Narrow%20(R)/R_8.pdf; ComponentLink4Description: Reference Circuit; ComponentLink4URL: http://www.analog.com/en/all-operational-amplifiers-op-amps/operational-amplifiers-op-amps/ad8662/products/product.html#product-recommendations
footprint ADI-R-8_N (SOIC, 8-Leads, Body 4.9x3.9mm, Pitch 1.27mm, IPC Medium Density)
footprint ADI-R-8_L (SOIC, 8-Leads, Body 4.9x3.9mm, Pitch 1.27mm, IPC High Density)
footprint ADI-R-8_M (SOIC, 8-Leads, Body 4.9x3.9mm, Pitch 1.27mm, IPC Low Density)
pins on every part: 4 -V (power), 8 +V (power)
part A pins: 1 OUT A (out), 2 -IN A (in), 3 +IN A (in)
part B pins: 5 +IN B (in), 6 -IN B (in), 7 OUT B (out)

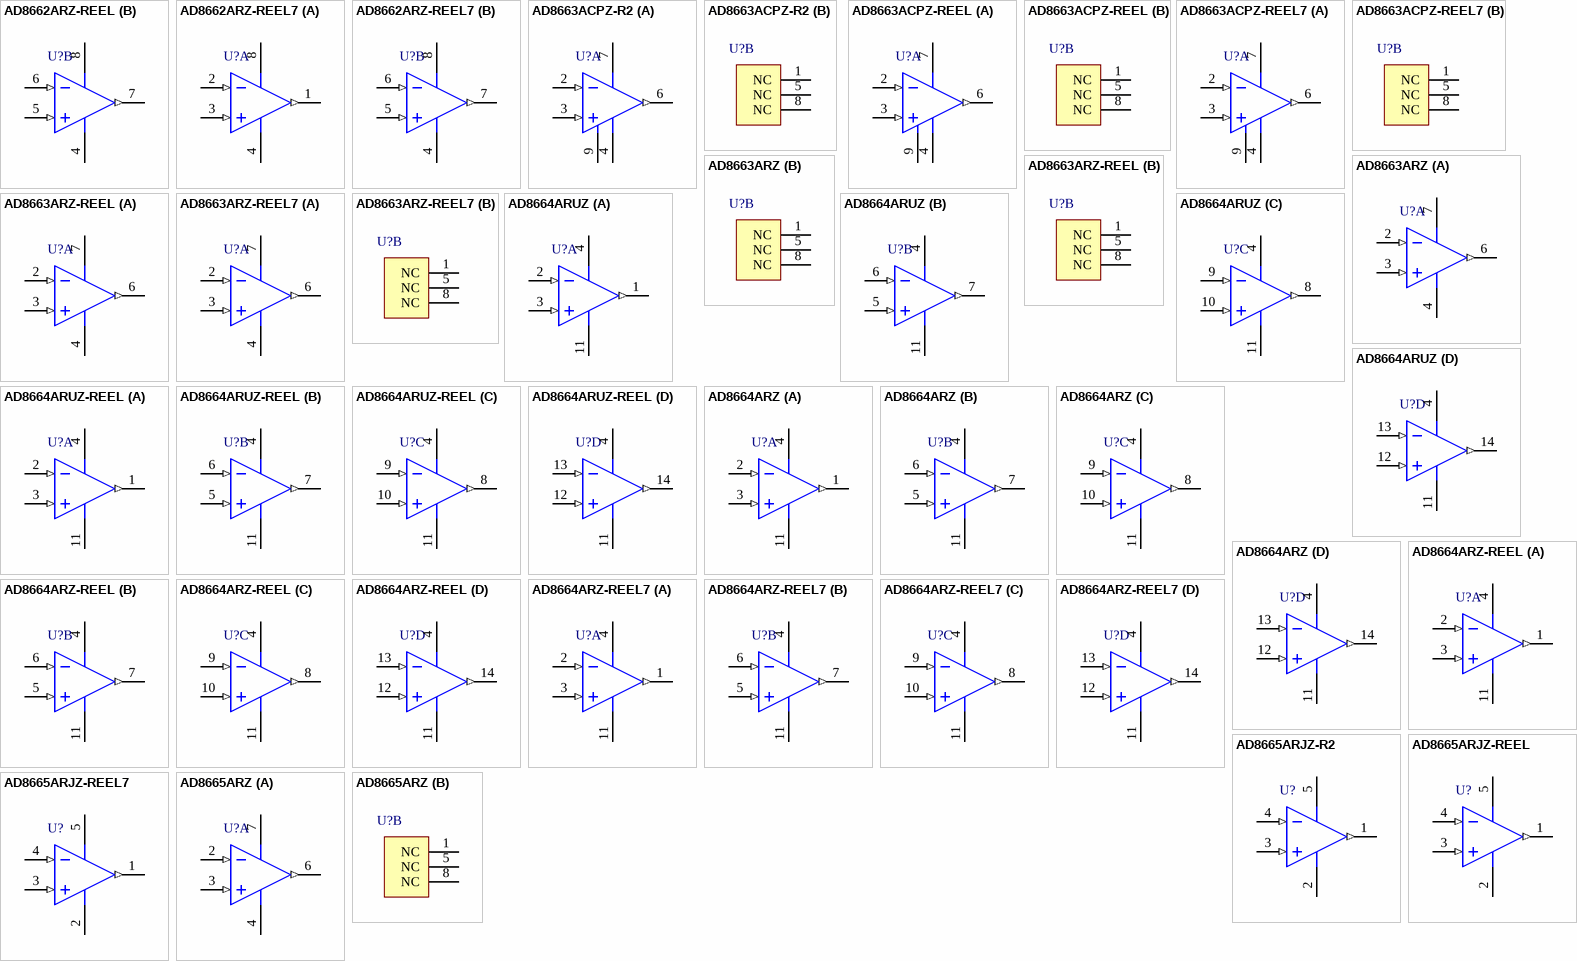
[diagram p64: symbols AD8662ARZ-REEL to AD8665ARZ]

## AD8662ARZ-REEL
designator U?
Double Channel Wide Bandwidth Operational Amplifier, 4 MHz BW, 3.5 V/us SR, Industrial, 8-pin SOIC (R-8), Reel; Generic Part Number: AD8662; Manufacturer: Analog Devices; PartNumber: AD8662ARZ-REEL; Amplifiers Per Package: 2; Input Bias Current: 300fA; Input Offset Voltage: 1mV; Iq/Amp: 1.55mA; Small Signal Bandwidth: 4MHz; V Span Max: 16V; V Span Min: 5V; DatasheetVersion: Rev. D; PackageVersion: 060506-A; PackageReference: R-8; PackageDescription: 8-Pin Standard Small Outline Package, Body 3.9 x 4.9 mm, Pitch 1.27 mm; Supplier 1: Digi-Key; Supplier Part Number 1: AD8662ARZ-REEL-ND; Slew Rate: 3.5V/us; Mounting Technology: Surface Mount; Code_JEDEC: MS-012-AA; ComponentLink1Description: Manufacturer URL; ComponentLink1URL: http://www.analog.com/en/index.html; ComponentLink2Description: Datasheet; ComponentLink2URL: http://www.analog.com/static/imported-files/data_sheets/AD8661_8662.pdf; ComponentLink3Description: Package Specification; ComponentLink3URL: http://www.analog.com/static/imported-files/packages/PKG_PDF/SOIC_Narrow%20(R)/R_8.pdf; ComponentLink4Description: Reference Circuit; ComponentLink4URL: http://www.analog.com/en/all-operational-amplifiers-op-amps/operational-amplifiers-op-amps/ad8662/products/product.html#product-recommendations
footprint ADI-R-8_N (SOIC, 8-Leads, Body 4.9x3.9mm, Pitch 1.27mm, IPC Medium Density)
footprint ADI-R-8_L (SOIC, 8-Leads, Body 4.9x3.9mm, Pitch 1.27mm, IPC High Density)
footprint ADI-R-8_M (SOIC, 8-Leads, Body 4.9x3.9mm, Pitch 1.27mm, IPC Low Density)
pins on every part: 4 -V (power), 8 +V (power)
part A pins: 1 OUT A (out), 2 -IN A (in), 3 +IN A (in)
part B pins: 5 +IN B (in), 6 -IN B (in), 7 OUT B (out)

## AD8662ARZ-REEL7
designator U?
Double Channel Wide Bandwidth Operational Amplifier, 4 MHz BW, 3.5 V/us SR, Industrial, 8-pin SOIC (R-8), Reel; Generic Part Number: AD8662; Manufacturer: Analog Devices; PartNumber: AD8662ARZ-REEL7; Amplifiers Per Package: 2; Input Bias Current: 300fA; Input Offset Voltage: 1mV; Iq/Amp: 1.55mA; Small Signal Bandwidth: 4MHz; V Span Max: 16V; V Span Min: 5V; DatasheetVersion: Rev. D; PackageVersion: 060506-A; PackageReference: R-8; PackageDescription: 8-Pin Standard Small Outline Package, Body 3.9 x 4.9 mm, Pitch 1.27 mm; Supplier 1: Digi-Key; Supplier Part Number 1: AD8662ARZ-REEL7-ND; Slew Rate: 3.5V/us; Mounting Technology: Surface Mount; Code_JEDEC: MS-012-AA; ComponentLink1Description: Manufacturer URL; ComponentLink1URL: http://www.analog.com/en/index.html; ComponentLink2Description: Datasheet; ComponentLink2URL: http://www.analog.com/static/imported-files/data_sheets/AD8661_8662.pdf; ComponentLink3Description: Package Specification; ComponentLink3URL: http://www.analog.com/static/imported-files/packages/PKG_PDF/SOIC_Narrow%20(R)/R_8.pdf; ComponentLink4Description: Reference Circuit; ComponentLink4URL: http://www.analog.com/en/all-operational-amplifiers-op-amps/operational-amplifiers-op-amps/ad8662/products/product.html#product-recommendations
footprint ADI-R-8_N (SOIC, 8-Leads, Body 4.9x3.9mm, Pitch 1.27mm, IPC Medium Density)
footprint ADI-R-8_L (SOIC, 8-Leads, Body 4.9x3.9mm, Pitch 1.27mm, IPC High Density)
footprint ADI-R-8_M (SOIC, 8-Leads, Body 4.9x3.9mm, Pitch 1.27mm, IPC Low Density)
pins on every part: 4 -V (power), 8 +V (power)
part A pins: 1 OUT A (out), 2 -IN A (in), 3 +IN A (in)
part B pins: 5 +IN B (in), 6 -IN B (in), 7 OUT B (out)

## AD8663ACPZ-R2
designator U?
Single Channel Single-Supply Operation Operational Amplifier, 540 KHz BW, 300 mV/us SR, Industrial, 8-pin QFN (CP-8-2), Reel; Generic Part Number: AD8663; Manufacturer: Analog Devices; PartNumber: AD8663ACPZ-R2; Amplifiers Per Package: 1; Input Bias Current: 300fA; Input Offset Voltage: 40uV; Iq/Amp: 285uA; Small Signal Bandwidth: 540KHz; V Span Max: 16V; V Span Min: 5V; DatasheetVersion: Rev. B; PackageVersion: 061507-B; PackageReference: CP-8-2; PackageDescription: 8-Pin Lead Frame Chip Scale Package, Body 3 x 3 mm, Pitch 0.5 mm; Supplier 1: Digi-Key; Supplier Part Number 1: AD8663ACPZ-R2TR-ND; Supplier 2: Digi-Key; Supplier Part Number 2: AD8663ACPZ-R2CT-ND; Supplier 3: Digi-Key; Supplier Part Number 3: AD8663ACPZ-R2DKR-ND; Slew Rate: 300mV/us; Mounting Technology: Surface Mount; ComponentLink1Description: Manufacturer URL; ComponentLink1URL: http://www.analog.com/en/index.html; ComponentLink2Description: Datasheet; ComponentLink2URL: http://www.analog.com/static/imported-files/data_sheets/AD8663_8667_8669.pdf; ComponentLink3Description: Package Specification; ComponentLink3URL: http://www.analog.com/static/imported-files/packages/56953322593982CP_8_2.pdf; ComponentLink4Description: Reference Circuit; ComponentLink4URL: http://www.analog.com/en/all-operational-amplifiers-op-amps/operational-amplifiers-op-amps/ad8663/products/product.html#product-recommendations
footprint ADI-CP-8-2_N (QFN, 8-Leads, Body 3x3mm, Pitch 0.5mm, Thermal Pad 1.45X1.74mm, IPC Medium Density)
footprint ADI-CP-8-2_L (QFN, 8-Leads, Body 3x3mm, Pitch 0.5mm, Thermal Pad 1.45X1.74mm, IPC High Density)
footprint ADI-CP-8-2_M (QFN, 8-Leads, Body 3x3mm, Pitch 0.5mm, Thermal Pad 1.45X1.74mm, IPC Low Density)
part A pins: 2 -IN (in), 3 +IN (in), 4 -V (power), 6 OUT (out), 7 +V (power), 9 EP
part B pins: 1 NC, 5 NC, 8 NC

## AD8663ACPZ-REEL
designator U?
Single Channel Single-Supply Operation Operational Amplifier, 540 KHz BW, 300 mV/us SR, Industrial, 8-pin QFN (CP-8-2), Reel; Generic Part Number: AD8663; Manufacturer: Analog Devices; PartNumber: AD8663ACPZ-REEL; Amplifiers Per Package: 1; Input Bias Current: 300fA; Input Offset Voltage: 40uV; Iq/Amp: 285uA; Small Signal Bandwidth: 540KHz; V Span Max: 16V; V Span Min: 5V; DatasheetVersion: Rev. B; PackageVersion: 061507-B; PackageReference: CP-8-2; PackageDescription: 8-Pin Lead Frame Chip Scale Package, Body 3 x 3 mm, Pitch 0.5 mm; Supplier 1: Digi-Key; Supplier Part Number 1: AD8663ACPZ-REEL-ND; Slew Rate: 300mV/us; Mounting Technology: Surface Mount; ComponentLink1Description: Manufacturer URL; ComponentLink1URL: http://www.analog.com/en/index.html; ComponentLink2Description: Datasheet; ComponentLink2URL: http://www.analog.com/static/imported-files/data_sheets/AD8663_8667_8669.pdf; ComponentLink3Description: Package Specification; ComponentLink3URL: http://www.analog.com/static/imported-files/packages/56953322593982CP_8_2.pdf; ComponentLink4Description: Reference Circuit; ComponentLink4URL: http://www.analog.com/en/all-operational-amplifiers-op-amps/operational-amplifiers-op-amps/ad8663/products/product.html#product-recommendations
footprint ADI-CP-8-2_N (QFN, 8-Leads, Body 3x3mm, Pitch 0.5mm, Thermal Pad 1.45X1.74mm, IPC Medium Density)
footprint ADI-CP-8-2_L (QFN, 8-Leads, Body 3x3mm, Pitch 0.5mm, Thermal Pad 1.45X1.74mm, IPC High Density)
footprint ADI-CP-8-2_M (QFN, 8-Leads, Body 3x3mm, Pitch 0.5mm, Thermal Pad 1.45X1.74mm, IPC Low Density)
part A pins: 2 -IN (in), 3 +IN (in), 4 -V (power), 6 OUT (out), 7 +V (power), 9 EP
part B pins: 1 NC, 5 NC, 8 NC

## AD8663ACPZ-REEL7
designator U?
Single Channel Single-Supply Operation Operational Amplifier, 540 KHz BW, 300 mV/us SR, Industrial, 8-pin QFN (CP-8-2), Reel; Generic Part Number: AD8663; Manufacturer: Analog Devices; PartNumber: AD8663ACPZ-REEL7; Amplifiers Per Package: 1; Input Bias Current: 300fA; Input Offset Voltage: 40uV; Iq/Amp: 285uA; Small Signal Bandwidth: 540KHz; V Span Max: 16V; V Span Min: 5V; DatasheetVersion: Rev. B; PackageVersion: 061507-B; PackageReference: CP-8-2; PackageDescription: 8-Pin Lead Frame Chip Scale Package, Body 3 x 3 mm, Pitch 0.5 mm; Supplier 1: Digi-Key; Supplier Part Number 1: AD8663ACPZ-REEL7TR-ND; Supplier 2: Digi-Key; Supplier Part Number 2: AD8663ACPZ-REEL7CT-ND; Supplier 3: Digi-Key; Supplier Part Number 3: AD8663ACPZ-REEL7DKR-ND; Slew Rate: 300mV/us; Mounting Technology: Surface Mount; ComponentLink1Description: Manufacturer URL; ComponentLink1URL: http://www.analog.com/en/index.html; ComponentLink2Description: Datasheet; ComponentLink2URL: http://www.analog.com/static/imported-files/data_sheets/AD8663_8667_8669.pdf; ComponentLink3Description: Package Specification; ComponentLink3URL: http://www.analog.com/static/imported-files/packages/56953322593982CP_8_2.pdf; ComponentLink4Description: Reference Circuit; ComponentLink4URL: http://www.analog.com/en/all-operational-amplifiers-op-amps/operational-amplifiers-op-amps/ad8663/products/product.html#product-recommendations
footprint ADI-CP-8-2_N (QFN, 8-Leads, Body 3x3mm, Pitch 0.5mm, Thermal Pad 1.45X1.74mm, IPC Medium Density)
footprint ADI-CP-8-2_L (QFN, 8-Leads, Body 3x3mm, Pitch 0.5mm, Thermal Pad 1.45X1.74mm, IPC High Density)
footprint ADI-CP-8-2_M (QFN, 8-Leads, Body 3x3mm, Pitch 0.5mm, Thermal Pad 1.45X1.74mm, IPC Low Density)
part A pins: 2 -IN (in), 3 +IN (in), 4 -V (power), 6 OUT (out), 7 +V (power), 9 EP
part B pins: 1 NC, 5 NC, 8 NC

## AD8663ARZ
designator U?
Single Channel Single-Supply Operation Operational Amplifier, 540 KHz BW, 300 mV/us SR, Industrial, 8-pin SOIC (R-8), Tube; Generic Part Number: AD8663; Manufacturer: Analog Devices; PartNumber: AD8663ARZ; Amplifiers Per Package: 1; Input Bias Current: 300fA; Input Offset Voltage: 40uV; Iq/Amp: 285uA; Small Signal Bandwidth: 540KHz; V Span Max: 16V; V Span Min: 5V; DatasheetVersion: Rev. B; PackageVersion: 060506-A; PackageReference: R-8; PackageDescription: 8-Pin Standard Small Outline Package, Body 3.9 x 4.9 mm, Pitch 1.27 mm; Supplier 1: Digi-Key; Supplier Part Number 1: AD8663ARZ-ND; Supplier 2: Farnell; Supplier Part Number 2: 1699636; Supplier 3: Newark; Supplier Part Number 3: 61M4057; Slew Rate: 300mV/us; Mounting Technology: Surface Mount; Code_JEDEC: MS-012-AA; ComponentLink1Description: Manufacturer URL; ComponentLink1URL: http://www.analog.com/en/index.html; ComponentLink2Description: Datasheet; ComponentLink2URL: http://www.analog.com/static/imported-files/data_sheets/AD8663_8667_8669.pdf; ComponentLink3Description: Package Specification; ComponentLink3URL: http://www.analog.com/static/imported-files/packages/PKG_PDF/SOIC_Narrow%20(R)/R_8.pdf; ComponentLink4Description: Reference Circuit; ComponentLink4URL: http://www.analog.com/en/all-operational-amplifiers-op-amps/operational-amplifiers-op-amps/ad8663/products/product.html#product-recommendations
footprint ADI-R-8_N (SOIC, 8-Leads, Body 4.9x3.9mm, Pitch 1.27mm, IPC Medium Density)
footprint ADI-R-8_L (SOIC, 8-Leads, Body 4.9x3.9mm, Pitch 1.27mm, IPC High Density)
footprint ADI-R-8_M (SOIC, 8-Leads, Body 4.9x3.9mm, Pitch 1.27mm, IPC Low Density)
part A pins: 2 -IN (in), 3 +IN (in), 4 -V (power), 6 OUT (out), 7 +V (power)
part B pins: 1 NC, 5 NC, 8 NC

## AD8663ARZ-REEL
designator U?
Single Channel Single-Supply Operation Operational Amplifier, 540 KHz BW, 300 mV/us SR, Industrial, 8-pin SOIC (R-8), Reel; Generic Part Number: AD8663; Manufacturer: Analog Devices; PartNumber: AD8663ARZ-REEL; Amplifiers Per Package: 1; Input Bias Current: 300fA; Input Offset Voltage: 40uV; Iq/Amp: 285uA; Small Signal Bandwidth: 540KHz; V Span Max: 16V; V Span Min: 5V; DatasheetVersion: Rev. B; PackageVersion: 060506-A; PackageReference: R-8; PackageDescription: 8-Pin Standard Small Outline Package, Body 3.9 x 4.9 mm, Pitch 1.27 mm; Supplier 1: Digi-Key; Supplier Part Number 1: AD8663ARZ-REEL-ND; Slew Rate: 300mV/us; Mounting Technology: Surface Mount; Code_JEDEC: MS-012-AA; ComponentLink1Description: Manufacturer URL; ComponentLink1URL: http://www.analog.com/en/index.html; ComponentLink2Description: Datasheet; ComponentLink2URL: http://www.analog.com/static/imported-files/data_sheets/AD8663_8667_8669.pdf; ComponentLink3Description: Package Specification; ComponentLink3URL: http://www.analog.com/static/imported-files/packages/PKG_PDF/SOIC_Narrow%20(R)/R_8.pdf; ComponentLink4Description: Reference Circuit; ComponentLink4URL: http://www.analog.com/en/all-operational-amplifiers-op-amps/operational-amplifiers-op-amps/ad8663/products/product.html#product-recommendations
footprint ADI-R-8_N (SOIC, 8-Leads, Body 4.9x3.9mm, Pitch 1.27mm, IPC Medium Density)
footprint ADI-R-8_L (SOIC, 8-Leads, Body 4.9x3.9mm, Pitch 1.27mm, IPC High Density)
footprint ADI-R-8_M (SOIC, 8-Leads, Body 4.9x3.9mm, Pitch 1.27mm, IPC Low Density)
part A pins: 2 -IN (in), 3 +IN (in), 4 -V (power), 6 OUT (out), 7 +V (power)
part B pins: 1 NC, 5 NC, 8 NC

## AD8663ARZ-REEL7
designator U?
Single Channel Single-Supply Operation Operational Amplifier, 540 KHz BW, 300 mV/us SR, Industrial, 8-pin SOIC (R-8), Reel; Generic Part Number: AD8663; Manufacturer: Analog Devices; PartNumber: AD8663ARZ-REEL7; Amplifiers Per Package: 1; Input Bias Current: 300fA; Input Offset Voltage: 40uV; Iq/Amp: 285uA; Small Signal Bandwidth: 540KHz; V Span Max: 16V; V Span Min: 5V; DatasheetVersion: Rev. B; PackageVersion: 060506-A; PackageReference: R-8; PackageDescription: 8-Pin Standard Small Outline Package, Body 3.9 x 4.9 mm, Pitch 1.27 mm; Supplier 1: Digi-Key; Supplier Part Number 1: AD8663ARZ-REEL7-ND; Slew Rate: 300mV/us; Mounting Technology: Surface Mount; Code_JEDEC: MS-012-AA; ComponentLink1Description: Manufacturer URL; ComponentLink1URL: http://www.analog.com/en/index.html; ComponentLink2Description: Datasheet; ComponentLink2URL: http://www.analog.com/static/imported-files/data_sheets/AD8663_8667_8669.pdf; ComponentLink3Description: Package Specification; ComponentLink3URL: http://www.analog.com/static/imported-files/packages/PKG_PDF/SOIC_Narrow%20(R)/R_8.pdf; ComponentLink4Description: Reference Circuit; ComponentLink4URL: http://www.analog.com/en/all-operational-amplifiers-op-amps/operational-amplifiers-op-amps/ad8663/products/product.html#product-recommendations
footprint ADI-R-8_N (SOIC, 8-Leads, Body 4.9x3.9mm, Pitch 1.27mm, IPC Medium Density)
footprint ADI-R-8_L (SOIC, 8-Leads, Body 4.9x3.9mm, Pitch 1.27mm, IPC High Density)
footprint ADI-R-8_M (SOIC, 8-Leads, Body 4.9x3.9mm, Pitch 1.27mm, IPC Low Density)
part A pins: 2 -IN (in), 3 +IN (in), 4 -V (power), 6 OUT (out), 7 +V (power)
part B pins: 1 NC, 5 NC, 8 NC